# EAGLE library part AMS-IAQ-CORE (library dr-library)
ams iAQ Core Indoor Air Quality Sensor TVOC, CO2 Prediction
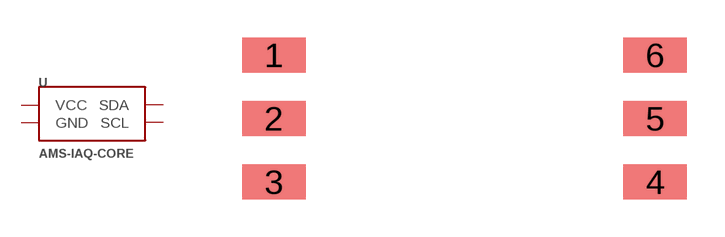
[diagram p27: symbol with the pads of AMS-IAQ; footprint AMS-IAQ]

Designator prefix U

## AMS-IAQ-CORE  [AMS-IAQ]
1  1  nc
2  SCL
3  GND  pwr
4  SDA
5  5  nc
6  VCC  pwr

## Footprint AMS-IAQ (pad centres in mm)
smd 2.54 x 1.4: 1 -7.6,1.08; 2 -7.6,-1.46; 3 -7.6,-4; 4 7.64,-4; 5 7.64,-1.46; 6 7.64,1.08